# Altium footprint library Mechanical_Connectors_Rectangular_2.54_PL.PcbLib: 16 footprints
Each footprint in its own frame and in the unit in brackets; x right, y up, seen from the top. Pads: shape width x height; smd on the part's side, far side on the other; paste and mask are expansions set on the pad; w line width, h text height; cw(c..) or ccw(c..) is an arc to the next point about the centre after c.
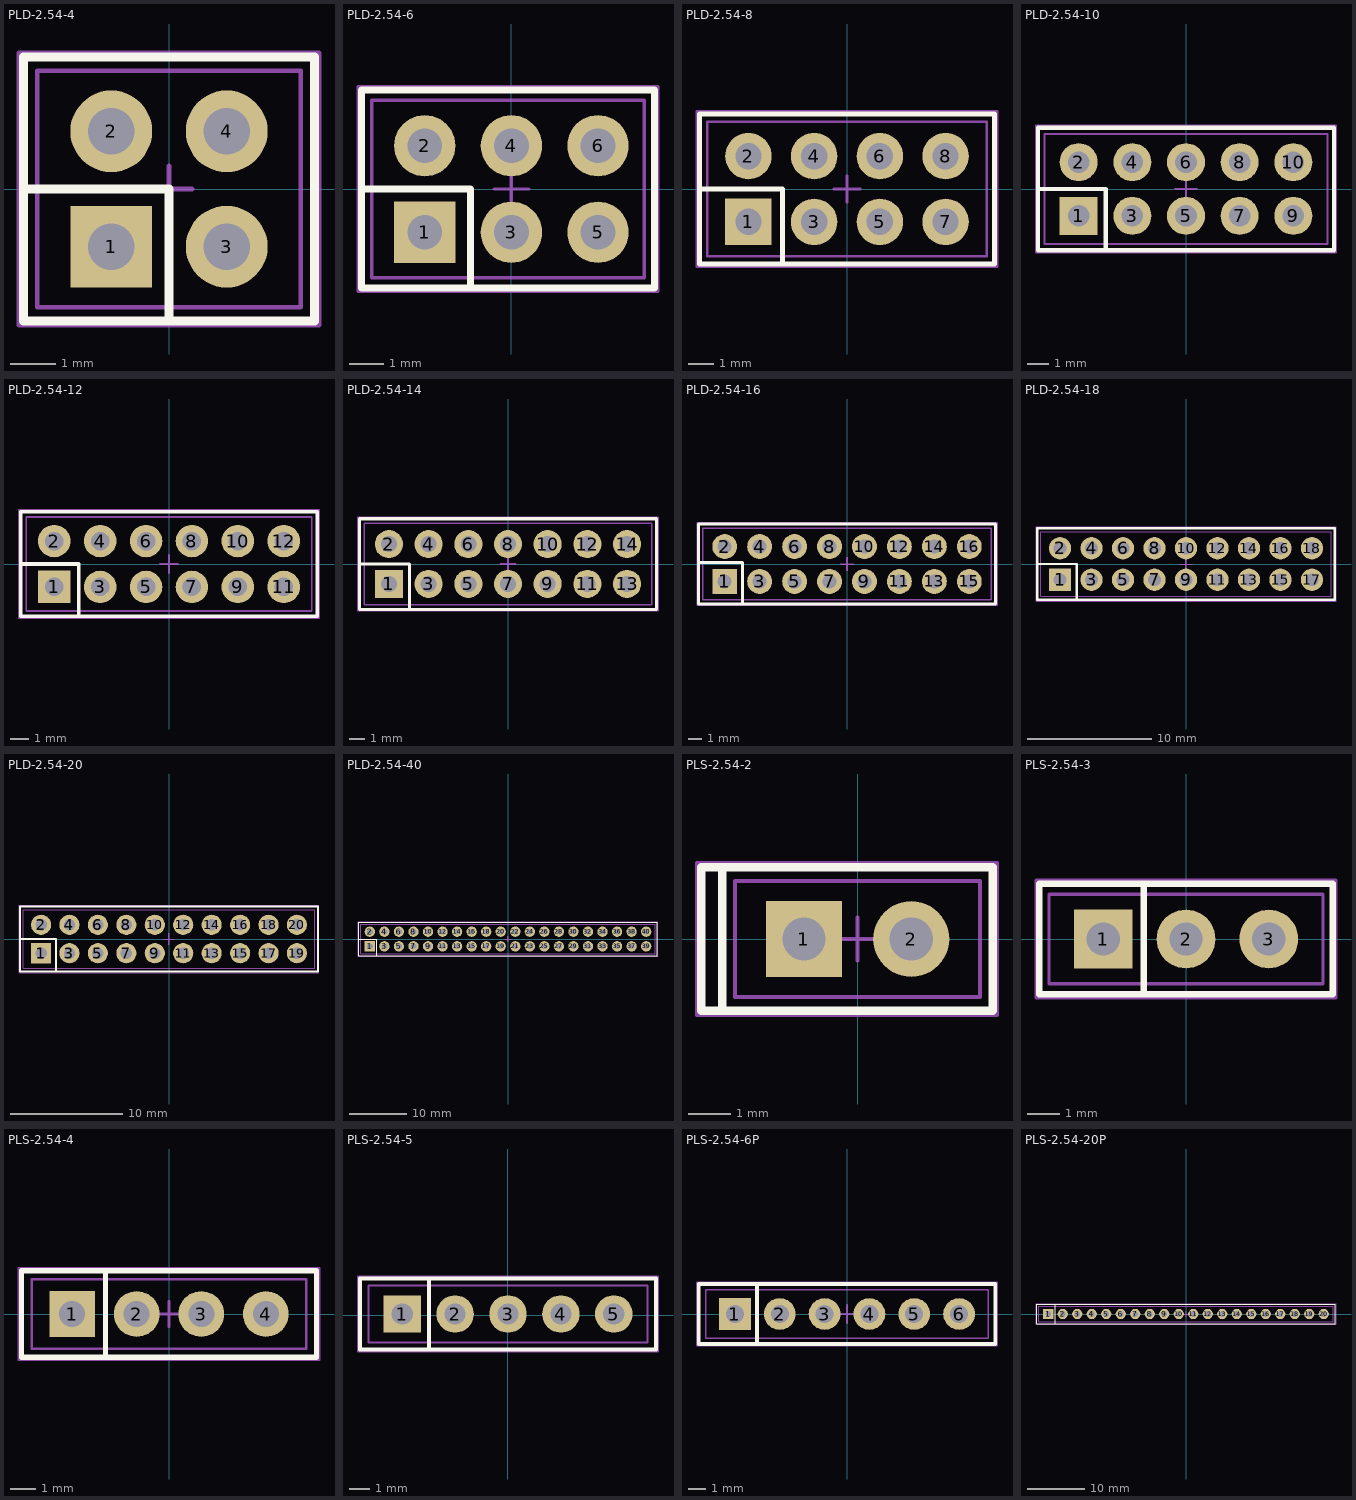
[diagram p0: the footprints below, top view; thin cyan lines are the x and y axes]

## PLD-2.54-4 [mm]
height 8.54
pads (4):
  rect 1.8x1.8 hole 1.02: 1(-1.27,-1.27)
  round 1.8 hole 1.02: 2(-1.27,1.27) 3(1.27,-1.27) 4(1.27,1.27)
Top Overlay:
  lines w0.2: -3.2,0 0,0 0,-2.9 ; -3.2,-2.9 3.2,-2.9 3.2,2.9 -3.2,2.9 -3.2,-2.9
Top Package:
  circle w0.1: c1.27,-1.27 r0.4
  circle w0.1: c1.27,1.27 r0.4
  circle w0.1: c-1.27,-1.27 r0.4
  circle w0.1: c-1.27,1.27 r0.4
  lines w0.1: -2.9,-2.6 2.9,-2.6 2.9,2.6 -2.9,2.6 -2.9,-2.6
Top Comment:
  text ".Comment" at -2.835,3.549 h2
Top Designator:
  text ".Designator" at -4.299,3.617 h2.5
Top Border:
  lines w0.1: -0.5,0 0.5,0 ; 0,-0.5 0,0.5 ; -3.3,-3 -3.3,3 3.3,3 3.3,-3 -3.3,-3 ; -0.508,0 0.508,0 -0.508,0 ; 0,-0.508 0,0.508 0,-0.508
3D body "PL-2x V1.stp": height 9.2, standoff -3.5, extent -2.54,-2.54 0,2.54
3D body "PL-2x V1.stp": height 9.2, standoff -3.5, extent 0,-2.54 2.54,2.54

## PLD-2.54-6 [mm]
height 8.54
pads (6):
  rect 1.8x1.8 hole 1.02: 1(-2.54,-1.27)
  round 1.8 hole 1.02: 2(-2.54,1.27) 3(0,-1.27) 4(0,1.27) 5(2.54,-1.27) 6(2.54,1.27)
Top Overlay:
  lines w0.2: -4.4,0 -1.2,0 -1.2,-2.9 ; -4.4,-2.9 4.2,-2.9 4.2,2.9 -4.4,2.9 -4.4,-2.9
Top Package:
  circle w0.1: c0,-1.27 r0.4
  circle w0.1: c0,1.27 r0.4
  circle w0.1: c-2.54,-1.27 r0.4
  circle w0.1: c-2.54,1.27 r0.4
  circle w0.1: c2.54,1.27 r0.4
  circle w0.1: c2.54,-1.27 r0.4
  lines w0.1: -4.1,-2.6 3.9,-2.6 3.9,2.6 -4.1,2.6 -4.1,-2.6
Top Comment:
  text ".Comment" at -2.835,3.549 h2
Top Designator:
  text ".Designator" at -4.299,3.617 h2.5
Top Border:
  lines w0.1: -0.5,0 0.5,0 ; 0,-0.5 0,0.5 ; -4.5,-3 -4.5,3 4.3,3 4.3,-3 -4.5,-3 ; -0.508,0 0.508,0 -0.508,0 ; 0,-0.508 0,0.508 0,-0.508
3D body "PL-2x V1.stp": height 9.2, standoff -3.5, extent -3.81,-2.54 -1.27,2.54
3D body "PL-2x V1.stp": height 9.2, standoff -3.5, extent -1.27,-2.54 1.27,2.54
3D body "PL-2x V1.stp": height 9.2, standoff -3.5, extent 1.27,-2.54 3.81,2.54

## PLD-2.54-8 [mm]
height 8.54
pads (8):
  rect 1.8x1.8 hole 1.02: 1(-3.81,-1.27)
  round 1.8 hole 1.02: 2(-3.81,1.27) 3(-1.27,-1.27) 4(-1.27,1.27) 5(1.27,-1.27) 6(1.27,1.27) 7(3.81,-1.27) 8(3.81,1.27)
Top Overlay:
  lines w0.2: -5.7,0 -2.5,0 -2.5,-2.9 ; -5.7,-2.9 5.7,-2.9 5.7,2.9 -5.7,2.9 -5.7,-2.9
Top Package:
  circle w0.1: c1.27,-1.27 r0.4
  circle w0.1: c1.27,1.27 r0.4
  circle w0.1: c-1.27,-1.27 r0.4
  circle w0.1: c-1.27,1.27 r0.4
  circle w0.1: c-3.81,-1.27 r0.4
  circle w0.1: c-3.81,1.27 r0.4
  circle w0.1: c3.81,-1.27 r0.4
  circle w0.1: c3.81,1.27 r0.4
  lines w0.1: -5.4,-2.6 5.4,-2.6 5.4,2.6 -5.4,2.6 -5.4,-2.6
Top Comment:
  text ".Comment" at -3.546,3.386 h2.5
Top Designator:
  text ".Designator" at -4.299,3.617 h2.5
Top Border:
  lines w0.1: -0.5,0 0.5,0 ; 0,-0.5 0,0.5 ; -5.8,-3 -5.8,3 5.8,3 5.8,-3 -5.8,-3 ; -0.508,0 0.508,0 -0.508,0 ; 0,-0.508 0,0.508 0,-0.508
3D body "PL-2x V1.stp": height 9.2, standoff -3.5, extent 0,-2.54 2.54,2.54
3D body "PL-2x V1.stp": height 9.2, standoff -3.5, extent 2.54,-2.54 5.08,2.54
3D body "PL-2x V1.stp": height 9.2, standoff -3.5, extent -5.08,-2.54 -2.54,2.54
3D body "PL-2x V1.stp": height 9.2, standoff -3.5, extent -2.54,-2.54 0,2.54

## PLD-2.54-10 [mm]
height 8.54
pads (10):
  rect 1.8x1.8 hole 1.02: 1(-5.08,-1.27)
  round 1.8 hole 1.02: 2(-5.08,1.27) 3(-2.54,-1.27) 4(-2.54,1.27) 5(0,-1.27) 6(0,1.27) 7(2.54,-1.27) 8(2.54,1.27) 9(5.08,-1.27) 10(5.08,1.27)
Top Overlay:
  lines w0.2: -7,0 -3.8,0 -3.8,-2.9 ; -7,-2.9 7,-2.9 7,2.9 -7,2.9 -7,-2.9
Top Package:
  circle w0.1: c5.08,-1.27 r0.4
  circle w0.1: c5.08,1.27 r0.4
  circle w0.1: c-5.08,-1.27 r0.4
  circle w0.1: c-5.08,1.27 r0.4
  circle w0.1: c0,-1.27 r0.4
  circle w0.1: c0,1.27 r0.4
  circle w0.1: c-2.54,-1.27 r0.4
  circle w0.1: c-2.54,1.27 r0.4
  circle w0.1: c2.54,1.27 r0.4
  circle w0.1: c2.54,-1.27 r0.4
  lines w0.1: -6.7,-2.6 6.7,-2.6 6.7,2.6 -6.7,2.6 -6.7,-2.6
Top Comment:
  text ".Comment" at -3.546,3.386 h2.5
Top Designator:
  text ".Designator" at -4.299,3.617 h2.5
Top Border:
  lines w0.1: -0.5,0 0.5,0 ; 0,-0.5 0,0.5 ; -7.1,-3 -7.1,3 7.1,3 7.1,-3 -7.1,-3 ; -0.508,0 0.508,0 -0.508,0 ; 0,-0.508 0,0.508 0,-0.508
3D body "PL-2x V1.stp": height 9.2, standoff -3.5, extent 3.81,-2.54 6.35,2.54
3D body "PL-2x V1.stp": height 9.2, standoff -3.5, extent -6.35,-2.54 -3.81,2.54
3D body "PL-2x V1.stp": height 9.2, standoff -3.5, extent 1.27,-2.54 3.81,2.54
3D body "PL-2x V1.stp": height 9.2, standoff -3.5, extent -1.27,-2.54 1.27,2.54
3D body "PL-2x V1.stp": height 9.2, standoff -3.5, extent -3.81,-2.54 -1.27,2.54

## PLD-2.54-12 [mm]
height 8.54
pads (12):
  rect 1.8x1.8 hole 1.02: 1(-6.35,-1.27)
  round 1.8 hole 1.02: 2(-6.35,1.27) 3(-3.81,-1.27) 4(-3.81,1.27) 5(-1.27,-1.27) 6(-1.27,1.27) 7(1.27,-1.27) 8(1.27,1.27) 9(3.81,-1.27) 10(3.81,1.27) 11(6.35,-1.27) 12(6.35,1.27)
Top Overlay:
  lines w0.2: -8.2,0 -5,0 -5,-2.9 ; -8.2,-2.9 8.2,-2.9 8.2,2.9 -8.2,2.9 -8.2,-2.9
Top Package:
  circle w0.1: c6.35,-1.27 r0.4
  circle w0.1: c6.35,1.27 r0.4
  circle w0.1: c-6.35,-1.27 r0.4
  circle w0.1: c-6.35,1.27 r0.4
  circle w0.1: c1.27,-1.27 r0.4
  circle w0.1: c1.27,1.27 r0.4
  circle w0.1: c-1.27,-1.27 r0.4
  circle w0.1: c-1.27,1.27 r0.4
  circle w0.1: c-3.81,-1.27 r0.4
  circle w0.1: c-3.81,1.27 r0.4
  circle w0.1: c3.81,-1.27 r0.4
  circle w0.1: c3.81,1.27 r0.4
  lines w0.1: -7.9,-2.6 7.9,-2.6 7.9,2.6 -7.9,2.6 -7.9,-2.6
Top Comment:
  text ".Comment" at -3.546,3.386 h2.5
Top Designator:
  text ".Designator" at -4.299,3.617 h2.5
Top Border:
  lines w0.1: -0.5,0 0.5,0 ; 0,-0.5 0,0.5 ; -8.3,-3 -8.3,3 8.3,3 8.3,-3 -8.3,-3 ; -0.508,0 0.508,0 -0.508,0 ; 0,-0.508 0,0.508 0,-0.508
3D body "PL-2x V1.stp": height 9.2, standoff -3.5, extent 5.08,-2.54 7.62,2.54
3D body "PL-2x V1.stp": height 9.2, standoff -3.5, extent -7.62,-2.54 -5.08,2.54
3D body "PL-2x V1.stp": height 9.2, standoff -3.5, extent -2.54,-2.54 0,2.54
3D body "PL-2x V1.stp": height 9.2, standoff -3.5, extent -5.08,-2.54 -2.54,2.54
3D body "PL-2x V1.stp": height 9.2, standoff -3.5, extent 2.54,-2.54 5.08,2.54
3D body "PL-2x V1.stp": height 9.2, standoff -3.5, extent 0,-2.54 2.54,2.54

## PLD-2.54-14 [mm]
height 8.54
pads (14):
  rect 1.8x1.8 hole 1.02: 1(-7.62,-1.27)
  round 1.8 hole 1.02: 2(-7.62,1.27) 3(-5.08,-1.27) 4(-5.08,1.27) 5(-2.54,-1.27) 6(-2.54,1.27) 7(0,-1.27) 8(0,1.27) 9(2.54,-1.27) 10(2.54,1.27) 11(5.08,-1.27) 12(5.08,1.27) 13(7.62,-1.27) 14(7.62,1.27)
Top Overlay:
  lines w0.2: -9.5,0 -6.3,0 -6.3,-2.9 ; -9.5,-2.9 9.5,-2.9 9.5,2.9 -9.5,2.9 -9.5,-2.9
Top Package:
  circle w0.1: c5.08,-1.27 r0.4
  circle w0.1: c5.08,1.27 r0.4
  circle w0.1: c-5.08,-1.27 r0.4
  circle w0.1: c-5.08,1.27 r0.4
  circle w0.1: c0,-1.27 r0.4
  circle w0.1: c0,1.27 r0.4
  circle w0.1: c-2.54,-1.27 r0.4
  circle w0.1: c-2.54,1.27 r0.4
  circle w0.1: c2.54,1.27 r0.4
  circle w0.1: c2.54,-1.27 r0.4
  circle w0.1: c-7.62,1.27 r0.4
  circle w0.1: c-7.62,-1.27 r0.4
  circle w0.1: c7.62,1.27 r0.4
  circle w0.1: c7.62,-1.27 r0.4
  lines w0.1: -9.2,-2.6 9.2,-2.6 9.2,2.6 -9.2,2.6 -9.2,-2.6
Top Comment:
  text ".Comment" at -3.546,3.386 h2.5
Top Designator:
  text ".Designator" at -4.299,3.617 h2.5
Top Border:
  lines w0.1: -0.5,0 0.5,0 ; 0,-0.5 0,0.5 ; -9.6,-3 -9.6,3 9.6,3 9.6,-3 -9.6,-3 ; -0.508,0 0.508,0 -0.508,0 ; 0,-0.508 0,0.508 0,-0.508
3D body "PL-2x V1.stp": height 9.2, standoff -3.5, extent 3.81,-2.54 6.35,2.54
3D body "PL-2x V1.stp": height 9.2, standoff -3.5, extent -6.35,-2.54 -3.81,2.54
3D body "PL-2x V1.stp": height 9.2, standoff -3.5, extent 1.27,-2.54 3.81,2.54
3D body "PL-2x V1.stp": height 9.2, standoff -3.5, extent -1.27,-2.54 1.27,2.54
3D body "PL-2x V1.stp": height 9.2, standoff -3.5, extent -3.81,-2.54 -1.27,2.54
3D body "PL-2x V1.stp": height 9.2, standoff -3.5, extent -8.89,-2.54 -6.35,2.54
3D body "PL-2x V1.stp": height 9.2, standoff -3.5, extent 6.35,-2.54 8.89,2.54

## PLD-2.54-16 [mm]
height 8.54
pads (16):
  rect 1.8x1.8 hole 1.02: 1(-8.89,-1.27)
  round 1.8 hole 1.02: 2(-8.89,1.27) 3(-6.35,-1.27) 4(-6.35,1.27) 5(-3.81,-1.27) 6(-3.81,1.27) 7(-1.27,-1.27) 8(-1.27,1.27) 9(1.27,-1.27) 10(1.27,1.27) 11(3.81,-1.27) 12(3.81,1.27) 13(6.35,-1.27) 14(6.35,1.27) 15(8.89,-1.27) 16(8.89,1.27)
Top Overlay:
  lines w0.2: -10.8,0.1 -7.6,0.1 -7.6,-2.8 ; -10.8,-2.9 -10.8,2.9 10.8,2.9 10.8,-2.9 -10.8,-2.9
Top Package:
  circle w0.1: c8.89,1.27 r0.4
  circle w0.1: c8.89,-1.27 r0.4
  circle w0.1: c-8.89,1.27 r0.4
  circle w0.1: c-8.89,-1.27 r0.4
  circle w0.1: c3.81,1.27 r0.4
  circle w0.1: c3.81,-1.27 r0.4
  circle w0.1: c-3.81,1.27 r0.4
  circle w0.1: c-3.81,-1.27 r0.4
  circle w0.1: c-1.27,1.27 r0.4
  circle w0.1: c-1.27,-1.27 r0.4
  circle w0.1: c1.27,1.27 r0.4
  circle w0.1: c1.27,-1.27 r0.4
  circle w0.1: c-6.35,1.27 r0.4
  circle w0.1: c-6.35,-1.27 r0.4
  circle w0.1: c6.35,1.27 r0.4
  circle w0.1: c6.35,-1.27 r0.4
  lines w0.1: -10.5,-2.6 -10.5,2.6 10.5,2.6 10.5,-2.6 -10.5,-2.6
Top Comment:
  text ".Comment" at -3.546,3.386 h2.5
Top Designator:
  text ".Designator" at -4.299,3.617 h2.5
Top Border:
  lines w0.1: -0.5,0 0.5,0 ; 0,-0.5 0,0.5 ; -10.9,-3 10.9,-3 10.9,3 -10.9,3 -10.9,-3 ; -0.508,0 0.508,0 -0.508,0 ; 0,-0.508 0,0.508 0,-0.508
3D body "PL-2x V1.stp": height 9.2, standoff -3.5, extent 7.62,-2.54 10.16,2.54
3D body "PL-2x V1.stp": height 9.2, standoff -3.5, extent 5.08,-2.54 7.62,2.54
3D body "PL-2x V1.stp": height 9.2, standoff -3.5, extent -10.16,-2.54 -7.62,2.54
3D body "PL-2x V1.stp": height 9.2, standoff -3.5, extent -7.62,-2.54 -5.08,2.54
3D body "PL-2x V1.stp": height 9.2, standoff -3.5, extent 0,-2.54 2.54,2.54
3D body "PL-2x V1.stp": height 9.2, standoff -3.5, extent 2.54,-2.54 5.08,2.54
3D body "PL-2x V1.stp": height 9.2, standoff -3.5, extent -5.08,-2.54 -2.54,2.54
3D body "PL-2x V1.stp": height 9.2, standoff -3.5, extent -2.54,-2.54 0,2.54

## PLD-2.54-18 [mm]
height 8.54
pads (18):
  rect 1.8x1.8 hole 1.02: 1(-10.16,-1.27)
  round 1.8 hole 1.02: 2(-10.16,1.27) 3(-7.62,-1.27) 4(-7.62,1.27) 5(-5.08,-1.27) 6(-5.08,1.27) 7(-2.54,-1.27) 8(-2.54,1.27) 9(0,-1.27) 10(0,1.27) 11(2.54,-1.27) 12(2.54,1.27) 13(5.08,-1.27) 14(5.08,1.27) 15(7.62,-1.27) 16(7.62,1.27) 17(10.16,-1.27) 18(10.16,1.27)
Top Overlay:
  lines w0.2: -12,0 -8.8,0 -8.8,-2.9 ; -12,-2.9 -12,2.9 12,2.9 12,-2.9 -12,-2.9
Top Package:
  circle w0.1: c10.16,-1.27 r0.4
  circle w0.1: c10.16,1.27 r0.4
  circle w0.1: c-10.16,-1.27 r0.4
  circle w0.1: c-10.16,1.27 r0.4
  circle w0.1: c7.62,-1.27 r0.4
  circle w0.1: c7.62,1.27 r0.4
  circle w0.1: c-7.62,-1.27 r0.4
  circle w0.1: c-7.62,1.27 r0.4
  circle w0.1: c2.54,-1.27 r0.4
  circle w0.1: c2.54,1.27 r0.4
  circle w0.1: c-2.54,1.27 r0.4
  circle w0.1: c-2.54,-1.27 r0.4
  circle w0.1: c0,1.27 r0.4
  circle w0.1: c0,-1.27 r0.4
  circle w0.1: c-5.08,1.27 r0.4
  circle w0.1: c-5.08,-1.27 r0.4
  circle w0.1: c5.08,1.27 r0.4
  circle w0.1: c5.08,-1.27 r0.4
  lines w0.1: -11.7,-2.6 -11.7,2.6 11.7,2.6 11.7,-2.6 -11.7,-2.6
Top Comment:
  text ".Comment" at -3.546,3.386 h2.5
Top Designator:
  text ".Designator" at -4.299,3.617 h2.5
Top Border:
  lines w0.1: -0.5,0 0.5,0 ; 0,-0.5 0,0.5 ; -12.1,-3 12.1,-3 12.1,3 -12.1,3 -12.1,-3 ; -0.508,0 0.508,0 -0.508,0 ; 0,-0.508 0,0.508 0,-0.508
3D body "PL-2x V1.stp": height 9.2, standoff -3.5, extent -8.89,-2.54 -6.35,2.54
3D body "PL-2x V1.stp": height 9.2, standoff -3.5, extent -11.43,-2.54 -8.89,2.54
3D body "PL-2x V1.stp": height 9.2, standoff -3.5, extent 8.89,-2.54 11.43,2.54
3D body "PL-2x V1.stp": height 9.2, standoff -3.5, extent 6.35,-2.54 8.89,2.54
3D body "PL-2x V1.stp": height 9.2, standoff -3.5, extent 3.81,-2.54 6.35,2.54
3D body "PL-2x V1.stp": height 9.2, standoff -3.5, extent -6.35,-2.54 -3.81,2.54
3D body "PL-2x V1.stp": height 9.2, standoff -3.5, extent 1.27,-2.54 3.81,2.54
3D body "PL-2x V1.stp": height 9.2, standoff -3.5, extent -1.27,-2.54 1.27,2.54
3D body "PL-2x V1.stp": height 9.2, standoff -3.5, extent -3.81,-2.54 -1.27,2.54

## PLD-2.54-20 [mm]
height 8.54
pads (20):
  rect 1.8x1.8 hole 1.02: 1(-11.43,-1.27)
  round 1.8 hole 1.02: 2(-11.43,1.27) 3(-8.89,-1.27) 4(-8.89,1.27) 5(-6.35,-1.27) 6(-6.35,1.27) 7(-3.81,-1.27) 8(-3.81,1.27) 9(-1.27,-1.27) 10(-1.27,1.27) 11(1.27,-1.27) 12(1.27,1.27) 13(3.81,-1.27) 14(3.81,1.27) 15(6.35,-1.27) 16(6.35,1.27) 17(8.89,-1.27) 18(8.89,1.27) 19(11.43,-1.27) 20(11.43,1.27)
Top Overlay:
  lines w0.2: -13.3,0 -10.1,0 -10.1,-2.9 ; -13.3,-2.9 13.3,-2.9 13.3,2.9 -13.3,2.9 -13.3,-2.9
Top Package:
  circle w0.1: c6.35,-1.27 r0.4
  circle w0.1: c6.35,1.27 r0.4
  circle w0.1: c-6.35,-1.27 r0.4
  circle w0.1: c-6.35,1.27 r0.4
  circle w0.1: c1.27,-1.27 r0.4
  circle w0.1: c1.27,1.27 r0.4
  circle w0.1: c-1.27,-1.27 r0.4
  circle w0.1: c-1.27,1.27 r0.4
  circle w0.1: c-3.81,-1.27 r0.4
  circle w0.1: c-3.81,1.27 r0.4
  circle w0.1: c3.81,-1.27 r0.4
  circle w0.1: c3.81,1.27 r0.4
  circle w0.1: c-8.89,-1.27 r0.4
  circle w0.1: c-8.89,1.27 r0.4
  circle w0.1: c-11.43,-1.27 r0.4
  circle w0.1: c-11.43,1.27 r0.4
  circle w0.1: c8.89,-1.27 r0.4
  circle w0.1: c8.89,1.27 r0.4
  circle w0.1: c11.43,-1.27 r0.4
  circle w0.1: c11.43,1.27 r0.4
  lines w0.1: -13,-2.6 13,-2.6 13,2.6 -13,2.6 -13,-2.6
Top Comment:
  text ".Comment" at -3.546,3.386 h2.5
Top Designator:
  text ".Designator" at -4.299,3.617 h2.5
Top Border:
  lines w0.1: -0.5,0 0.5,0 ; 0,-0.5 0,0.5 ; -13.4,-3 -13.4,3 13.4,3 13.4,-3 -13.4,-3 ; -0.508,0 0.508,0 -0.508,0 ; 0,-0.508 0,0.508 0,-0.508
3D body "PL-2x V1.stp": height 9.2, standoff -3.5, extent 0,-2.54 2.54,2.54
3D body "PL-2x V1.stp": height 9.2, standoff -3.5, extent 2.54,-2.54 5.08,2.54
3D body "PL-2x V1.stp": height 9.2, standoff -3.5, extent -5.08,-2.54 -2.54,2.54
3D body "PL-2x V1.stp": height 9.2, standoff -3.5, extent -2.54,-2.54 0,2.54
3D body "PL-2x V1.stp": height 9.2, standoff -3.5, extent -7.62,-2.54 -5.08,2.54
3D body "PL-2x V1.stp": height 9.2, standoff -3.5, extent -12.7,-2.54 -10.16,2.54
3D body "PL-2x V1.stp": height 9.2, standoff -3.5, extent -10.16,-2.54 -7.62,2.54
3D body "PL-2x V1.stp": height 9.2, standoff -3.5, extent 10.16,-2.54 12.7,2.54
3D body "PL-2x V1.stp": height 9.2, standoff -3.5, extent 5.08,-2.54 7.62,2.54
3D body "PL-2x V1.stp": height 9.2, standoff -3.5, extent 7.62,-2.54 10.16,2.54

## PLD-2.54-40 [mm]
height 8.54
pads (40):
  rect 1.8x1.8 hole 1.02: 1(-24.13,-1.27)
  round 1.8 hole 1.02: 2(-24.13,1.27) 3(-21.59,-1.27) 4(-21.59,1.27) 5(-19.05,-1.27) 6(-19.05,1.27) 7(-16.51,-1.27) 8(-16.51,1.27) 9(-13.97,-1.27) 10(-13.97,1.27) 11(-11.43,-1.27) 12(-11.43,1.27) 13(-8.89,-1.27) 14(-8.89,1.27) 15(-6.35,-1.27) 16(-6.35,1.27) 17(-3.81,-1.27) 18(-3.81,1.27) 19(-1.27,-1.27) 20(-1.27,1.27) 21(1.27,-1.27) 22(1.27,1.27) 23(3.81,-1.27) 24(3.81,1.27) 25(6.35,-1.27) 26(6.35,1.27) 27(8.89,-1.27) 28(8.89,1.27) 29(11.43,-1.27) 30(11.43,1.27) 31(13.97,-1.27) 32(13.97,1.27) 33(16.51,-1.27) 34(16.51,1.27) 35(19.05,-1.27) 36(19.05,1.27) 37(21.59,-1.27) 38(21.59,1.27) 39(24.13,-1.27) 40(24.13,1.27)
Top Overlay:
  lines w0.2: -26.1,0 -22.9,0 -22.9,-2.9 ; -26.1,-2.9 -26.1,2.9 26.1,2.9 26.1,-2.9 -26.1,-2.9
Top Package:
  circle w0.1: c-1.27,1.27 r0.4
  circle w0.1: c-1.27,-1.27 r0.4
  circle w0.1: c-3.81,1.27 r0.4
  circle w0.1: c-3.81,-1.27 r0.4
  circle w0.1: c-24.13,1.27 r0.4
  circle w0.1: c-24.13,-1.27 r0.4
  circle w0.1: c-21.59,1.27 r0.4
  circle w0.1: c-21.59,-1.27 r0.4
  circle w0.1: c-8.89,1.27 r0.4
  circle w0.1: c-8.89,-1.27 r0.4
  circle w0.1: c-16.51,1.27 r0.4
  circle w0.1: c-16.51,-1.27 r0.4
  circle w0.1: c-13.97,1.27 r0.4
  circle w0.1: c-13.97,-1.27 r0.4
  circle w0.1: c-11.43,1.27 r0.4
  circle w0.1: c-11.43,-1.27 r0.4
  circle w0.1: c-19.05,1.27 r0.4
  circle w0.1: c-19.05,-1.27 r0.4
  circle w0.1: c-6.35,1.27 r0.4
  circle w0.1: c-6.35,-1.27 r0.4
  circle w0.1: c24.13,1.27 r0.4
  circle w0.1: c24.13,-1.27 r0.4
  circle w0.1: c21.59,1.27 r0.4
  circle w0.1: c21.59,-1.27 r0.4
  circle w0.1: c1.27,1.27 r0.4
  circle w0.1: c1.27,-1.27 r0.4
  circle w0.1: c3.81,1.27 r0.4
  circle w0.1: c3.81,-1.27 r0.4
  circle w0.1: c16.51,1.27 r0.4
  circle w0.1: c16.51,-1.27 r0.4
  circle w0.1: c8.89,1.27 r0.4
  circle w0.1: c8.89,-1.27 r0.4
  circle w0.1: c11.43,1.27 r0.4
  circle w0.1: c11.43,-1.27 r0.4
  circle w0.1: c13.97,1.27 r0.4
  circle w0.1: c13.97,-1.27 r0.4
  circle w0.1: c6.35,1.27 r0.4
  circle w0.1: c6.35,-1.27 r0.4
  circle w0.1: c19.05,1.27 r0.4
  circle w0.1: c19.05,-1.27 r0.4
  lines w0.1: -25.7,-2.6 -25.7,2.6 25.7,2.6 25.7,-2.6 -25.7,-2.6
Top Comment:
  text ".Comment" at -3.546,3.386 h2.5
Top Designator:
  text ".Designator" at -4.299,3.617 h2.5
Top Border:
  lines w0.1: -0.5,0 0.5,0 ; 0,-0.5 0,0.5 ; -26.2,-3 26.2,-3 26.2,3 -26.2,3 -26.2,-3 ; -0.508,0 0.508,0 -0.508,0 ; 0,-0.508 0,0.508 0,-0.508
3D body "PL-2x V1.stp": height 9.2, standoff -3.5, extent 22.86,-2.54 25.4,2.54
3D body "PL-2x V1.stp": height 9.2, standoff -3.5, extent 20.32,-2.54 22.86,2.54
3D body "PL-2x V1.stp": height 9.2, standoff -3.5, extent 17.78,-2.54 20.32,2.54
3D body "PL-2x V1.stp": height 9.2, standoff -3.5, extent 15.24,-2.54 17.78,2.54
3D body "PL-2x V1.stp": height 9.2, standoff -3.5, extent 12.7,-2.54 15.24,2.54
3D body "PL-2x V1.stp": height 9.2, standoff -3.5, extent 10.16,-2.54 12.7,2.54
3D body "PL-2x V1.stp": height 9.2, standoff -3.5, extent 7.62,-2.54 10.16,2.54
3D body "PL-2x V1.stp": height 9.2, standoff -3.5, extent 5.08,-2.54 7.62,2.54
3D body "PL-2x V1.stp": height 9.2, standoff -3.5, extent 2.54,-2.54 5.08,2.54
3D body "PL-2x V1.stp": height 9.2, standoff -3.5, extent 0,-2.54 2.54,2.54
3D body "PL-2x V1.stp": height 9.2, standoff -3.5, extent -2.54,-2.54 0,2.54
3D body "PL-2x V1.stp": height 9.2, standoff -3.5, extent -5.08,-2.54 -2.54,2.54
3D body "PL-2x V1.stp": height 9.2, standoff -3.5, extent -7.62,-2.54 -5.08,2.54
3D body "PL-2x V1.stp": height 9.2, standoff -3.5, extent -10.16,-2.54 -7.62,2.54
3D body "PL-2x V1.stp": height 9.2, standoff -3.5, extent -12.7,-2.54 -10.16,2.54
3D body "PL-2x V1.stp": height 9.2, standoff -3.5, extent -15.24,-2.54 -12.7,2.54
3D body "PL-2x V1.stp": height 9.2, standoff -3.5, extent -17.78,-2.54 -15.24,2.54
3D body "PL-2x V1.stp": height 9.2, standoff -3.5, extent -20.32,-2.54 -17.78,2.54
3D body "PL-2x V1.stp": height 9.2, standoff -3.5, extent -22.86,-2.54 -20.32,2.54
3D body "PL-2x V1.stp": height 9.2, standoff -3.5, extent -25.4,-2.54 -22.86,2.54

## PLS-2.54-2 [mm]
height 8.54
pads (2):
  rect 1.8x1.8 hole 1.02: 1(-1.27,0)
  round 1.8 hole 1.02: 2(1.27,0)
Top Overlay:
  lines w0.2: -3.2,-1.7 -3.2,1.7 ; -3.7,-1.7 3.2,-1.7 3.2,1.7 -3.7,1.7 -3.7,-1.7
Top Package:
  circle w0.1: c-1.27,0 r0.4
  circle w0.1: c1.27,0 r0.4
  lines w0.1: -2.9,-1.375 2.9,-1.375 2.9,1.375 -2.9,1.375 -2.9,-1.375
Top Comment:
  text ".Comment" at -2.835,2.349 h2
Top Designator:
  text ".Designator" at -4.299,2.417 h2.5
Top Border:
  lines w0.1: -0.5,0 0.5,0 ; 0,-0.5 0,0.5 ; -3.8,-1.8 -3.8,1.8 3.3,1.8 3.3,-1.8 -3.8,-1.8 ; -0.508,0 0.508,0 -0.508,0 ; 0,-0.508 0,0.508 0,-0.508
3D body "PL-1x V1.stp": height 9.2, standoff -3.5, extent 0,-1.27 2.54,1.27
3D body "PL-1x V1.stp": height 9.2, standoff -3.5, extent -2.54,-1.27 0,1.27

## PLS-2.54-3 [mm]
height 8.54
pads (3):
  rect 1.8x1.8 hole 1.02: 1(-2.54,0)
  round 1.8 hole 1.02: 2(0,0) 3(2.54,0)
Top Overlay:
  lines w0.2: -1.3,-1.7 -1.3,1.7 ; -4.5,-1.7 4.5,-1.7 4.5,1.7 -4.5,1.7 -4.5,-1.7
Top Package:
  circle w0.1: c2.54,0 r0.4
  circle w0.1: c-2.54,0 r0.4
  circle w0.1: c0,0 r0.4
  lines w0.1: -4.2,-1.375 4.2,-1.375 4.2,1.375 -4.2,1.375 -4.2,-1.375
Top Comment:
  text ".Comment" at -2.835,2.349 h2
Top Designator:
  text ".Designator" at -4.299,2.417 h2.5
Top Border:
  lines w0.1: -0.5,0 0.5,0 ; 0,-0.5 0,0.5 ; -4.6,-1.8 -4.6,1.8 4.6,1.8 4.6,-1.8 -4.6,-1.8 ; -0.508,0 0.508,0 -0.508,0 ; 0,-0.508 0,0.508 0,-0.508
3D body "PL-1x V1.stp": height 9.2, standoff -3.5, extent -3.81,-1.27 -1.27,1.27
3D body "PL-1x V1.stp": height 9.2, standoff -3.5, extent -1.27,-1.27 1.27,1.27
3D body "PL-1x V1.stp": height 9.2, standoff -3.5, extent 1.27,-1.27 3.81,1.27

## PLS-2.54-4 [mm]
height 8.54
pads (4):
  rect 1.8x1.8 hole 1.02: 1(-3.81,0)
  round 1.8 hole 1.02: 2(-1.27,0) 3(1.27,0) 4(3.81,0)
Top Overlay:
  lines w0.2: -2.5,-1.7 -2.5,1.7 ; -5.8,-1.7 5.8,-1.7 5.8,1.7 -5.8,1.7 -5.8,-1.7
Top Package:
  circle w0.1: c1.27,0 r0.4
  circle w0.1: c-3.81,0 r0.4
  circle w0.1: c-1.27,0 r0.4
  circle w0.1: c3.81,0 r0.4
  lines w0.1: -5.4,-1.375 5.4,-1.375 5.4,1.375 -5.4,1.375 -5.4,-1.375
Top Comment:
  text ".Comment" at -3.546,2.186 h2.5
Top Designator:
  text ".Designator" at -4.299,2.417 h2.5
Top Border:
  lines w0.1: -0.5,0 0.5,0 ; 0,-0.5 0,0.5 ; -5.9,-1.8 -5.9,1.8 5.9,1.8 5.9,-1.8 -5.9,-1.8 ; -0.508,0 0.508,0 -0.508,0 ; 0,-0.508 0,0.508 0,-0.508
3D body "PL-1x V1.stp": height 9.2, standoff -3.5, extent -5.08,-1.27 -2.54,1.27
3D body "PL-1x V1.stp": height 9.2, standoff -3.5, extent -2.54,-1.27 0,1.27
3D body "PL-1x V1.stp": height 9.2, standoff -3.5, extent 0,-1.27 2.54,1.27
3D body "PL-1x V1.stp": height 9.2, standoff -3.5, extent 2.54,-1.27 5.08,1.27

## PLS-2.54-5 [mm]
height 8.54
pads (5):
  rect 1.8x1.8 hole 1.02: 1(-5.078,0.053)
  round 1.8 hole 1.02: 2(-2.538,0.053) 3(0.002,0.053) 4(2.542,0.053) 5(5.082,0.053)
Top Overlay:
  lines w0.2: -3.798,-1.647 -3.798,1.753 ; -7.098,-1.647 7.102,-1.647 7.102,1.753 -7.098,1.753 -7.098,-1.647
Top Package:
  circle w0.1: c5.082,0.053 r0.4
  circle w0.1: c-5.078,0.053 r0.4
  circle w0.1: c2.542,0.053 r0.4
  circle w0.1: c-2.538,0.053 r0.4
  circle w0.1: c0.002,0.053 r0.4
  lines w0.1: -6.698,-1.322 6.702,-1.322 6.702,1.428 -6.698,1.428 -6.698,-1.322
Top Comment:
  text ".Comment" at -2.833,2.402 h2
Top Designator:
  text ".Designator" at -4.297,2.471 h2.5
Top Border:
  lines w0.1: -0.498,0.053 0.502,0.053 ; 0.002,-0.447 0.002,0.553 ; -7.198,-1.747 -7.198,1.853 7.202,1.853 7.202,-1.747 -7.198,-1.747 ; -0.506,0.053 0.51,0.053 -0.506,0.053 ; 0.002,-0.455 0.002,0.561 0.002,-0.455
3D body "PL-1x V1.stp": height 9.2, standoff -3.5, extent 3.81,-1.27 6.35,1.27
3D body "PL-1x V1.stp": height 9.2, standoff -3.5, extent -6.35,-1.27 -3.81,1.27
3D body "PL-1x V1.stp": height 9.2, standoff -3.5, extent -3.81,-1.27 -1.27,1.27
3D body "PL-1x V1.stp": height 9.2, standoff -3.5, extent -1.27,-1.27 1.27,1.27
3D body "PL-1x V1.stp": height 9.2, standoff -3.5, extent 1.27,-1.27 3.81,1.27

## PLS-2.54-6P [mm]
height 8.54
pads (6):
  rect 1.8x1.8 hole 1.02: 1(-6.35,0)
  round 1.8 hole 1.02: 2(-3.81,0) 3(-1.27,0) 4(1.27,0) 5(3.81,0) 6(6.35,0)
Top Overlay:
  lines w0.2: -5.1,-1.7 -5.1,1.7 ; -8.4,-1.7 -8.4,1.7 8.4,1.7 8.4,-1.7 -8.4,-1.7
Top Package:
  circle w0.1: c6.35,0 r0.4
  circle w0.1: c-6.35,0 r0.4
  circle w0.1: c3.81,0 r0.4
  circle w0.1: c-1.27,0 r0.4
  circle w0.1: c-3.81,0 r0.4
  circle w0.1: c1.27,0 r0.4
  lines w0.1: -8,-1.375 -8,1.375 8,1.375 8,-1.375 -8,-1.375
Top Comment:
  text ".Comment" at -3.546,2.186 h2.5
Top Designator:
  text ".Designator" at -4.299,2.417 h2.5
Top Border:
  lines w0.1: -0.5,0 0.5,0 ; 0,-0.5 0,0.5 ; -8.5,-1.8 8.5,-1.8 8.5,1.8 -8.5,1.8 -8.5,-1.8 ; -0.508,0 0.508,0 -0.508,0 ; 0,-0.508 0,0.508 0,-0.508
3D body "PL-1x V1.stp": height 9.2, standoff -3.5, extent 2.54,-1.27 5.08,1.27
3D body "PL-1x V1.stp": height 9.2, standoff -3.5, extent 0,-1.27 2.54,1.27
3D body "PL-1x V1.stp": height 9.2, standoff -3.5, extent -2.54,-1.27 0,1.27
3D body "PL-1x V1.stp": height 9.2, standoff -3.5, extent -5.08,-1.27 -2.54,1.27
3D body "PL-1x V1.stp": height 9.2, standoff -3.5, extent -7.62,-1.27 -5.08,1.27
3D body "PL-1x V1.stp": height 9.2, standoff -3.5, extent 5.08,-1.27 7.62,1.27

## PLS-2.54-20P [mm]
height 8.54
pads (20):
  rect 1.8x1.8 hole 1.02: 1(-24.13,0)
  round 1.8 hole 1.02: 2(-21.59,0) 3(-19.05,0) 4(-16.51,0) 5(-13.97,0) 6(-11.43,0) 7(-8.89,0) 8(-6.35,0) 9(-3.81,0) 10(-1.27,0) 11(1.27,0) 12(3.81,0) 13(6.35,0) 14(8.89,0) 15(11.43,0) 16(13.97,0) 17(16.51,0) 18(19.05,0) 19(21.59,0) 20(24.13,0)
Top Overlay:
  lines w0.2: -22.88,-1.7 -22.88,1.7 ; 26.175,1.7 -26.18,1.7 -26.18,-1.7 26.18,-1.7 26.18,1.7
Top Package:
  circle w0.1: c16.51,0 r0.4
  circle w0.1: c3.81,0 r0.4
  circle w0.1: c1.27,0 r0.4
  circle w0.1: c6.35,0 r0.4
  circle w0.1: c8.89,0 r0.4
  circle w0.1: c11.43,0 r0.4
  circle w0.1: c13.97,0 r0.4
  circle w0.1: c19.05,0 r0.4
  circle w0.1: c21.59,0 r0.4
  circle w0.1: c24.13,0 r0.4
  circle w0.1: c-19.05,0 r0.4
  circle w0.1: c-11.43,0 r0.4
  circle w0.1: c-13.97,0 r0.4
  circle w0.1: c-24.13,0 r0.4
  circle w0.1: c-16.51,0 r0.4
  circle w0.1: c-21.59,0 r0.4
  circle w0.1: c-6.35,0 r0.4
  circle w0.1: c-8.89,0 r0.4
  circle w0.1: c-3.81,0 r0.4
  circle w0.1: c-1.27,0 r0.4
  lines w0.1: -25.78,-1.375 -25.78,1.375 25.78,1.375 25.78,-1.375 -25.78,-1.375
Top Comment:
  text ".Comment" at -3.546,2.186 h2.5
Top Designator:
  text ".Designator" at -4.299,2.417 h2.5
Top Border:
  lines w0.1: -0.508,0 0.508,0 ; 0,-0.508 0,0.508 ; 26.275,-1.8 -26.28,-1.8 -26.28,1.8 26.28,1.8 26.28,-1.8
3D body "PL-1x V1.stp": height 9.2, standoff -3.5, extent 17.78,-1.27 20.32,1.27
3D body "PL-1x V1.stp": height 9.2, standoff -3.5, extent 12.7,-1.27 15.24,1.27
3D body "PL-1x V1.stp": height 9.2, standoff -3.5, extent 15.24,-1.27 17.78,1.27
3D body "PL-1x V1.stp": height 9.2, standoff -3.5, extent 7.62,-1.27 10.16,1.27
3D body "PL-1x V1.stp": height 9.2, standoff -3.5, extent 10.16,-1.27 12.7,1.27
3D body "PL-1x V1.stp": height 9.2, standoff -3.5, extent 20.32,-1.27 22.86,1.27
3D body "PL-1x V1.stp": height 9.2, standoff -3.5, extent 22.86,-1.27 25.4,1.27
3D body "PL-1x V1.stp": height 9.2, standoff -3.5, extent -22.86,-1.27 -20.32,1.27
3D body "PL-1x V1.stp": height 9.2, standoff -3.5, extent -25.4,-1.27 -22.86,1.27
3D body "PL-1x V1.stp": height 9.2, standoff -3.5, extent 5.08,-1.27 7.62,1.27
3D body "PL-1x V1.stp": height 9.2, standoff -3.5, extent -15.24,-1.27 -12.7,1.27
3D body "PL-1x V1.stp": height 9.2, standoff -3.5, extent -20.32,-1.27 -17.78,1.27
3D body "PL-1x V1.stp": height 9.2, standoff -3.5, extent -17.78,-1.27 -15.24,1.27
3D body "PL-1x V1.stp": height 9.2, standoff -3.5, extent -12.7,-1.27 -10.16,1.27
3D body "PL-1x V1.stp": height 9.2, standoff -3.5, extent -10.16,-1.27 -7.62,1.27
3D body "PL-1x V1.stp": height 9.2, standoff -3.5, extent -7.62,-1.27 -5.08,1.27
3D body "PL-1x V1.stp": height 9.2, standoff -3.5, extent -5.08,-1.27 -2.54,1.27
3D body "PL-1x V1.stp": height 9.2, standoff -3.5, extent -2.54,-1.27 0,1.27
3D body "PL-1x V1.stp": height 9.2, standoff -3.5, extent 0,-1.27 2.54,1.27
3D body "PL-1x V1.stp": height 9.2, standoff -3.5, extent 2.54,-1.27 5.08,1.27